# Altium schematic symbol library LM339.Schlib: 1 symbol
Pins are listed as number, name and electrical type; pins without a type are passive.

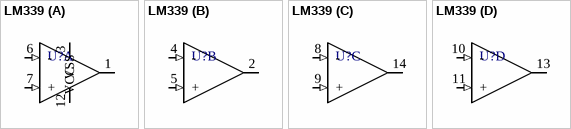
[diagram p0: symbol LM339]

## LM339
designator U?  (value not drawn)
Quad Comparator, LM339
part A pins: 1 (oc), 3 VCC, 6 - (in), 7 + (in), 12 VSS
part B pins: 2 (oc), 4 - (in), 5 + (in)
part C pins: 8 - (in), 9 + (in), 14 (oc)
part D pins: 10 - (in), 11 + (in), 13 (oc)